# EAGLE library part MCP49X2 (library custom)
DAC 8-bit Dual SPI 2.7-5.5V PDIP
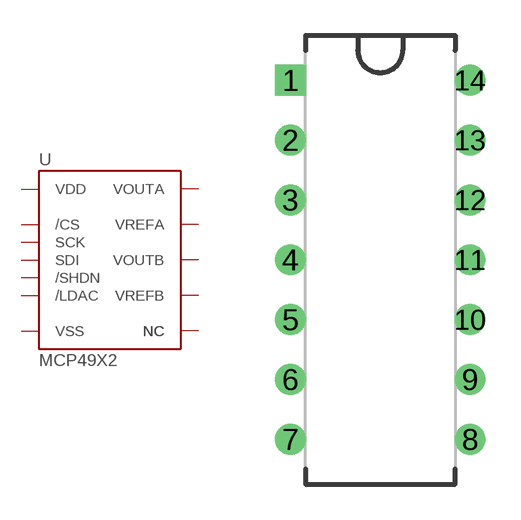
[diagram p31: symbol with the pads of 14-PDIP; footprint 14-PDIP]

Designator prefix -

## MCP49X2  [14-PDIP]
1  VDD  pwr
2  NC
3  /CS  in
4  SCK  in
5  SDI  in
6  NC
7  NC
8  /LDAC  in
9  /SHDN  in
10  VOUTB  out
11  VREFB  in
12  VSS  pwr
13  VREFA  in
14  VOUTA  out

## Footprint 14-PDIP (pad centres in mm)
drill 0.8 square: 1 -3.81,7.62
drill 0.8: 2 -3.81,5.08; 3 -3.81,2.54; 4 -3.81,0; 5 -3.81,-2.54; 6 -3.81,-5.08; 7 -3.81,-7.62; 8 3.81,-7.62; 9 3.81,-5.08; 10 3.81,-2.54; 11 3.81,0; 12 3.81,2.54; 13 3.81,5.08; 14 3.81,7.62